# Altium schematic symbol library Type-C.SchLib: 16 symbols
Pins are listed as number, name and electrical type; pins without a type are passive.

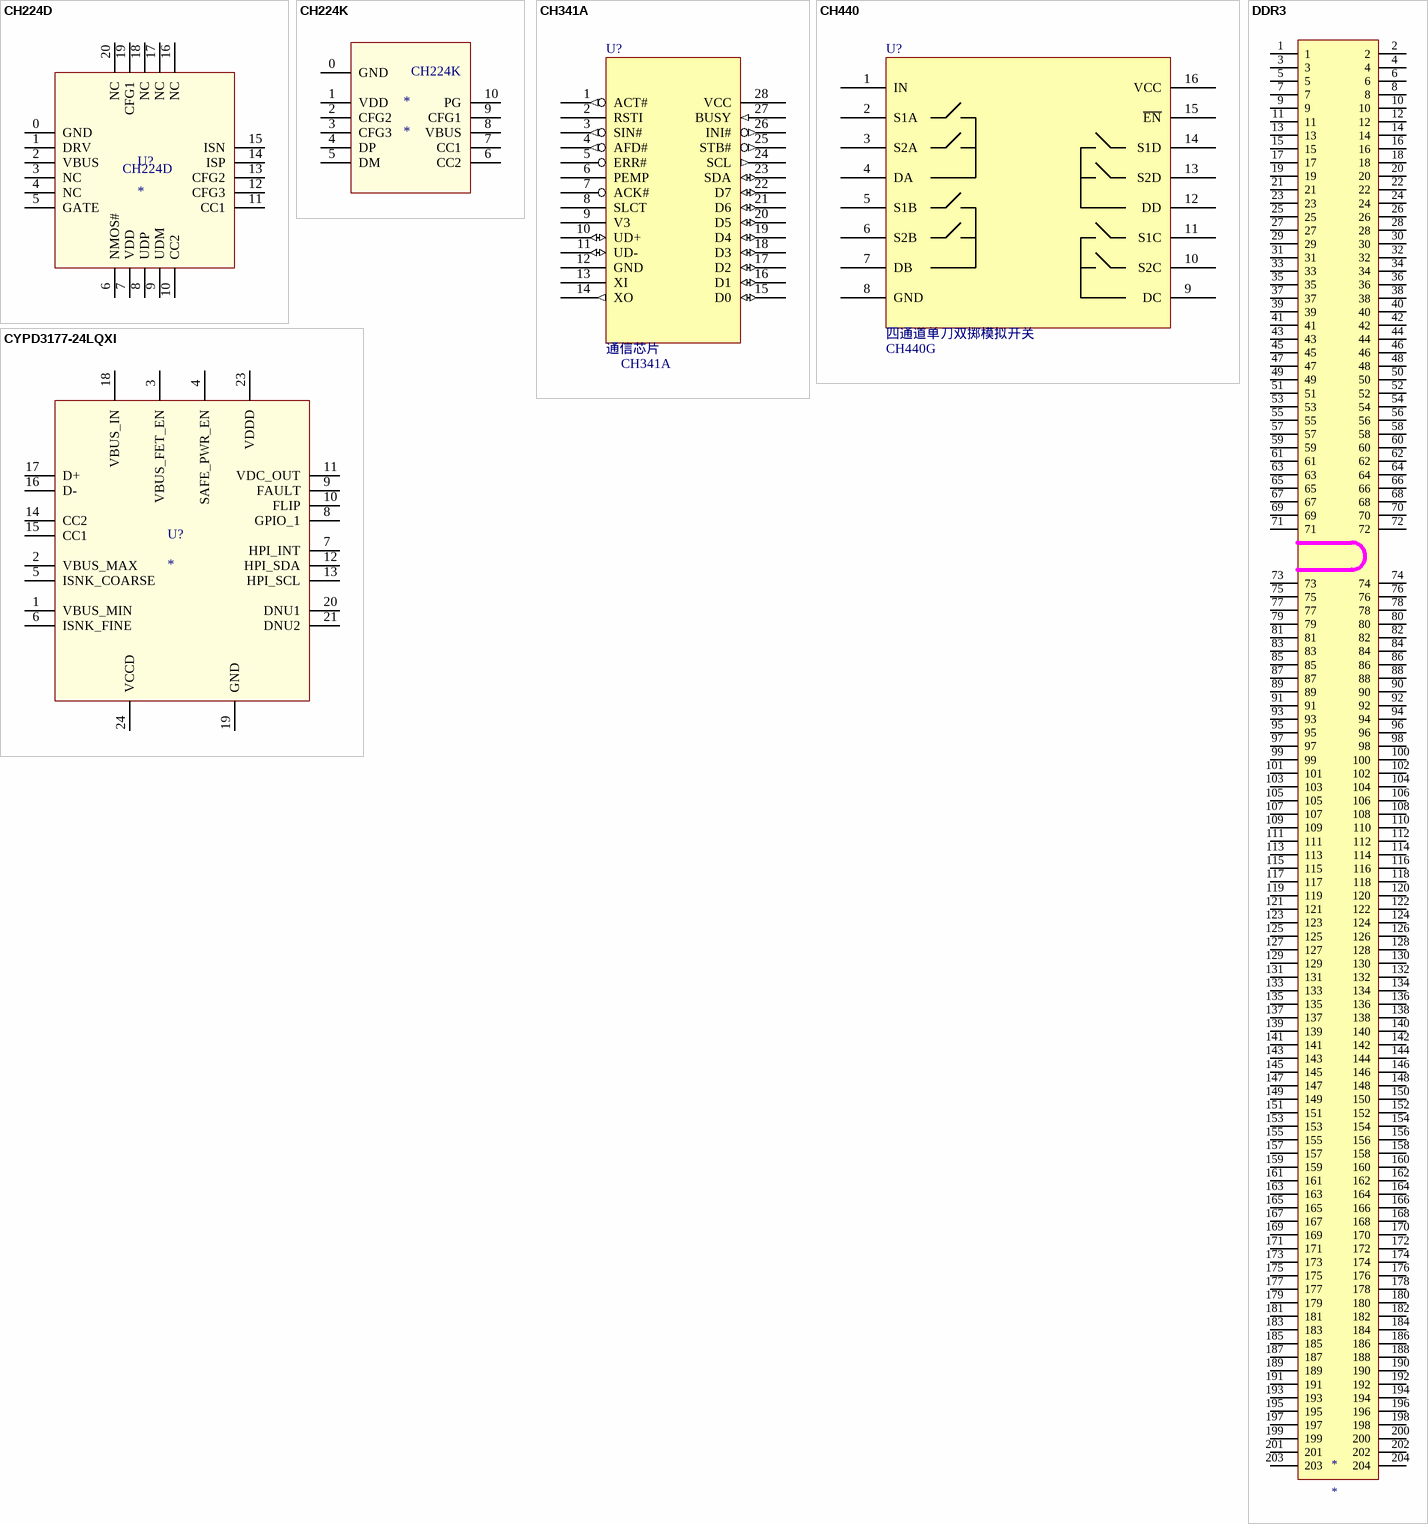
[diagram p0: symbols CH224D to DDR3]

## CH224D
designator U?
footprint QFN20-3x3
pins: 0 GND, 1 DRV, 2 VBUS, 3 NC, 4 NC, 5 GATE, 6 NMOS#, 7 VDD, 8 UDP, 9 UDM, 10 CC2, 11 CC1, 12 CFG3, 13 CFG2, 14 ISP, 15 ISN, 16 NC, 17 NC, 18 NC, 19 CFG1, 20 NC

## CH224K
designator *
pins: 0 GND, 1 VDD, 2 CFG2, 3 CFG3, 4 DP, 5 DM, 6 CC2, 7 CC1, 8 VBUS, 9 CFG1, 10 PG

## CH341A
designator U?, comment 通信芯片  value CH341A
USB to Print Port / Parallel
footprint SOP28 (body  18.4*7.62mm,引脚 18.4*10.16mm，脚间距1.27mm)
pins: 1 ACT# (out), 2 RSTI, 3 SIN# (out), 4 AFD# (out), 5 ERR#, 6 PEMP, 7 ACK#, 8 SLCT, 9 V3 (power), 10 UD+ (io), 11 UD- (io), 12 GND (power), 13 XI, 14 XO (out), 15 D0 (io), 16 D1 (io), 17 D2 (io), 18 D3 (io), 19 D4 (io), 20 D5 (io), 21 D6 (io), 22 D7 (io), 23 SDA (io), 24 SCL (out), 25 STB# (out), 26 INI# (out), 27 BUSY (in), 28 VCC (power)

## CH440
designator U?, comment 四通道单刀双掷模拟开关  value CH440G
四通道单刀双掷模拟开关 ，EN 低电平使能，IN 低电平 1#端导通，高电平2#端导通，DX是公共端
footprint SOP-16 (BODY长10mm，宽3.9mm，脚间距1.27mm，引脚宽度0.33mm，引脚最宽6.2mm)
pins: 1 IN, 2 S1A, 3 S2A, 4 DA, 5 S1B, 6 S2B, 7 DB, 8 GND, 9 DC, 10 S2C, 11 S1C, 12 DD, 13 S2D, 14 S1D, 15 ~{EN}, 16 VCC

## CYPD3177-24LQXI
designator U?
footprint QFN24
pins: 1 VBUS_MIN, 2 VBUS_MAX, 3 VBUS_FET_EN, 4 SAFE_PWR_EN, 5 ISNK_COARSE, 6 ISNK_FINE, 7 HPI_INT, 8 GPIO_1, 9 FAULT, 10 FLIP, 11 VDC_OUT, 12 HPI_SDA, 13 HPI_SCL, 14 CC2, 15 CC1, 16 D-, 17 D+, 18 VBUS_IN, 19 GND, 20 DNU1, 21 DNU2, 23 VDDD, 24 VCCD

## DDR3
designator *
footprint DDR3_PLUG_R
footprint DDR3_PLUG_L
pins: 1, 2, 3, 4, 5, 6, 7, 8, 9, 10, 11, 12, 13, 14, 15, 16, 17, 18, 19, 20, 21, 22, 23, 24, 25, 26, 27, 28, 29, 30, 31, 32, 33, 34, 35, 36, 37, 38, 39, 40, 41, 42, 43, 44, 45, 46, 47, 48, 49, 50, 51, 52, 53, 54, 55, 56, 57, 58, 59, 60, 61, 62, 63, 64, 65, 66, 67, 68, 69, 70, 71, 72, 73, 74, 75, 76, 77, 78, 79, 80, 81, 82, 83, 84, 85, 86, 87, 88, 89, 90, 91, 92, 93, 94, 95, 96, 97, 98, 99, 100, 101, 102, 103, 104, 105, 106, 107, 108, 109, 110, 111, 112, 113, 114, 115, 116, 117, 118, 119, 120, 121, 122, 123, 124, 125, 126, 127, 128, 129, 130, 131, 132, 133, 134, 135, 136, 137, 138, 139, 140, 141, 142, 143, 144, 145, 146, 147, 148, 149, 150, 151, 152, 153, 154, 155, 156, 157, 158, 159, 160, 161, 162, 163, 164, 165, 166, 167, 168, 169, 170, 171, 172, 173, 174, 175, 176, 177, 178, 179, 180, 181, 182, 183, 184, 185, 186, 187, 188, 189, 190, 191, 192, 193, 194, 195, 196, 197, 198, 199, 200, 201, 202, 203, 204

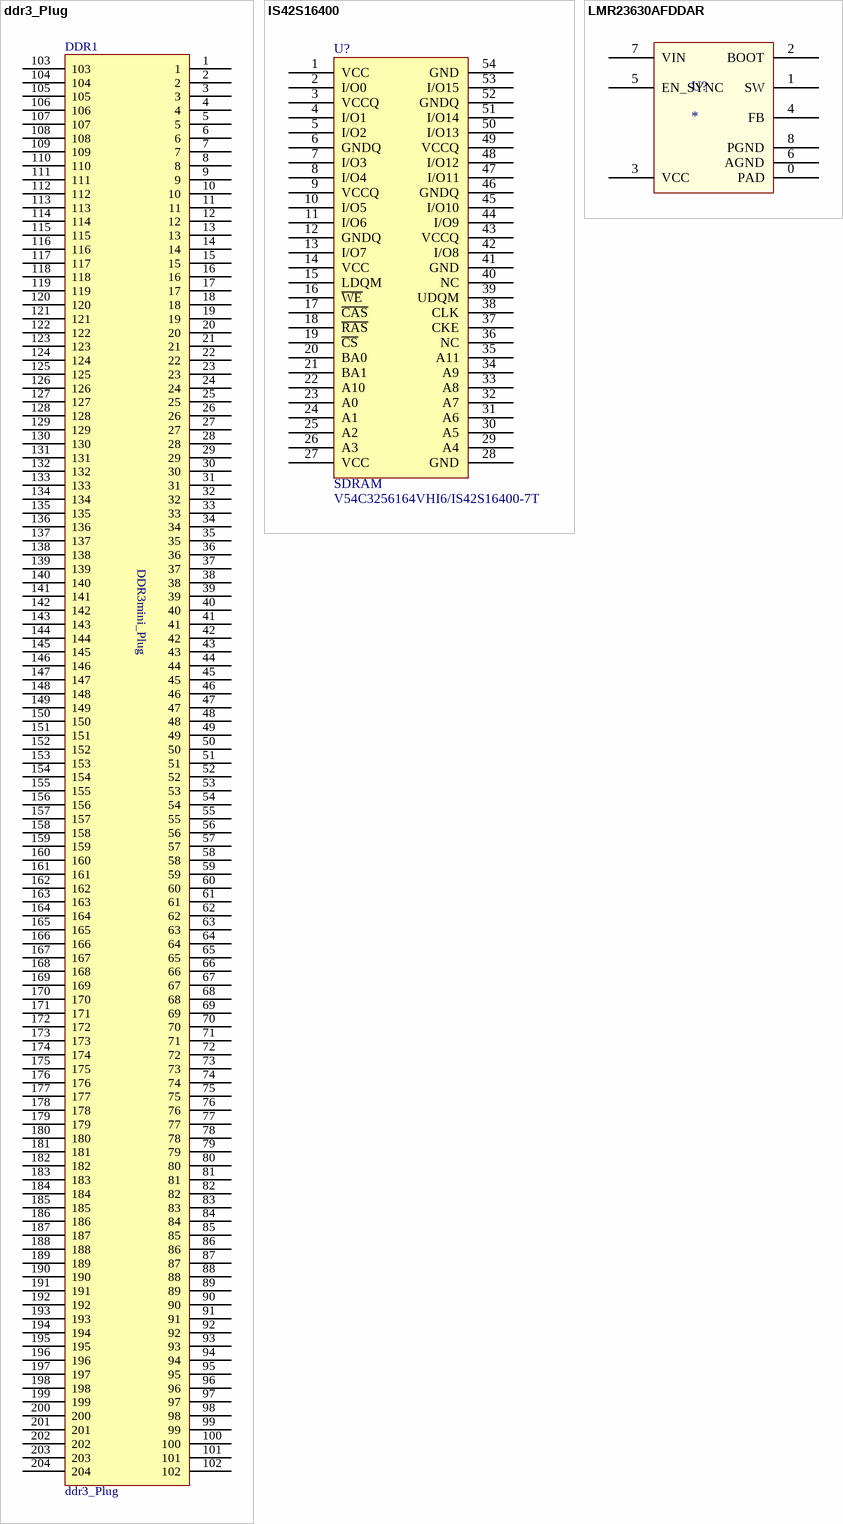
[diagram p1: symbols ddr3_Plug to LMR23630AFDDAR]

## ddr3_Plug
designator DDR1
footprint DDR3_PLUG_L
footprint DDR3_PLUG_R
pins: 1, 2, 3, 4, 5, 6, 7, 8, 9, 10, 11, 12, 13, 14, 15, 16, 17, 18, 19, 20, 21, 22, 23, 24, 25, 26, 27, 28, 29, 30, 31, 32, 33, 34, 35, 36, 37, 38, 39, 40, 41, 42, 43, 44, 45, 46, 47, 48, 49, 50, 51, 52, 53, 54, 55, 56, 57, 58, 59, 60, 61, 62, 63, 64, 65, 66, 67, 68, 69, 70, 71, 72, 73, 74, 75, 76, 77, 78, 79, 80, 81, 82, 83, 84, 85, 86, 87, 88, 89, 90, 91, 92, 93, 94, 95, 96, 97, 98, 99, 100, 101, 102, 103, 104, 105, 106, 107, 108, 109, 110, 111, 112, 113, 114, 115, 116, 117, 118, 119, 120, 121, 122, 123, 124, 125, 126, 127, 128, 129, 130, 131, 132, 133, 134, 135, 136, 137, 138, 139, 140, 141, 142, 143, 144, 145, 146, 147, 148, 149, 150, 151, 152, 153, 154, 155, 156, 157, 158, 159, 160, 161, 162, 163, 164, 165, 166, 167, 168, 169, 170, 171, 172, 173, 174, 175, 176, 177, 178, 179, 180, 181, 182, 183, 184, 185, 186, 187, 188, 189, 190, 191, 192, 193, 194, 195, 196, 197, 198, 199, 200, 201, 202, 203, 204
text: DDR3mini_Plug

## IS42S16400
designator U?, comment SDRAM  value V54C3256164VHI6/IS42S16400-7T
ISSI 公司SDRAM ， 166, 133, 100 MHz
footprint TSOP54 (body 长宽22.22mm*10.16mm，引脚长宽22.22mm*11.76mm，脚间距0.8mm)
pins: 1 VCC, 2 I/O0, 3 VCCQ, 4 I/O1, 5 I/O2, 6 GNDQ, 7 I/O3, 8 I/O4, 9 VCCQ, 10 I/O5, 11 I/O6, 12 GNDQ, 13 I/O7, 14 VCC, 15 LDQM, 16 ~{WE}, 17 ~{CAS}, 18 ~{RAS}, 19 ~{CS}, 20 BA0, 21 BA1, 22 A10, 23 A0, 24 A1, 25 A2, 26 A3, 27 VCC, 28 GND, 29 A4, 30 A5, 31 A6, 32 A7, 33 A8, 34 A9, 35 A11, 36 NC, 37 CKE, 38 CLK, 39 UDQM, 40 NC, 41 GND, 42 I/O8, 43 VCCQ, 44 I/O9, 45 I/O10, 46 GNDQ, 47 I/O11, 48 I/O12, 49 VCCQ, 50 I/O13, 51 I/O14, 52 GNDQ, 53 I/O15, 54 GND

## LMR23630AFDDAR
designator U?
4-36V_INPUT;3A_OUTPUT
pins: 0 PAD, 1 SW, 2 BOOT, 3 VCC, 4 FB, 5 EN_SYNC, 6 AGND, 7 VIN, 8 PGND

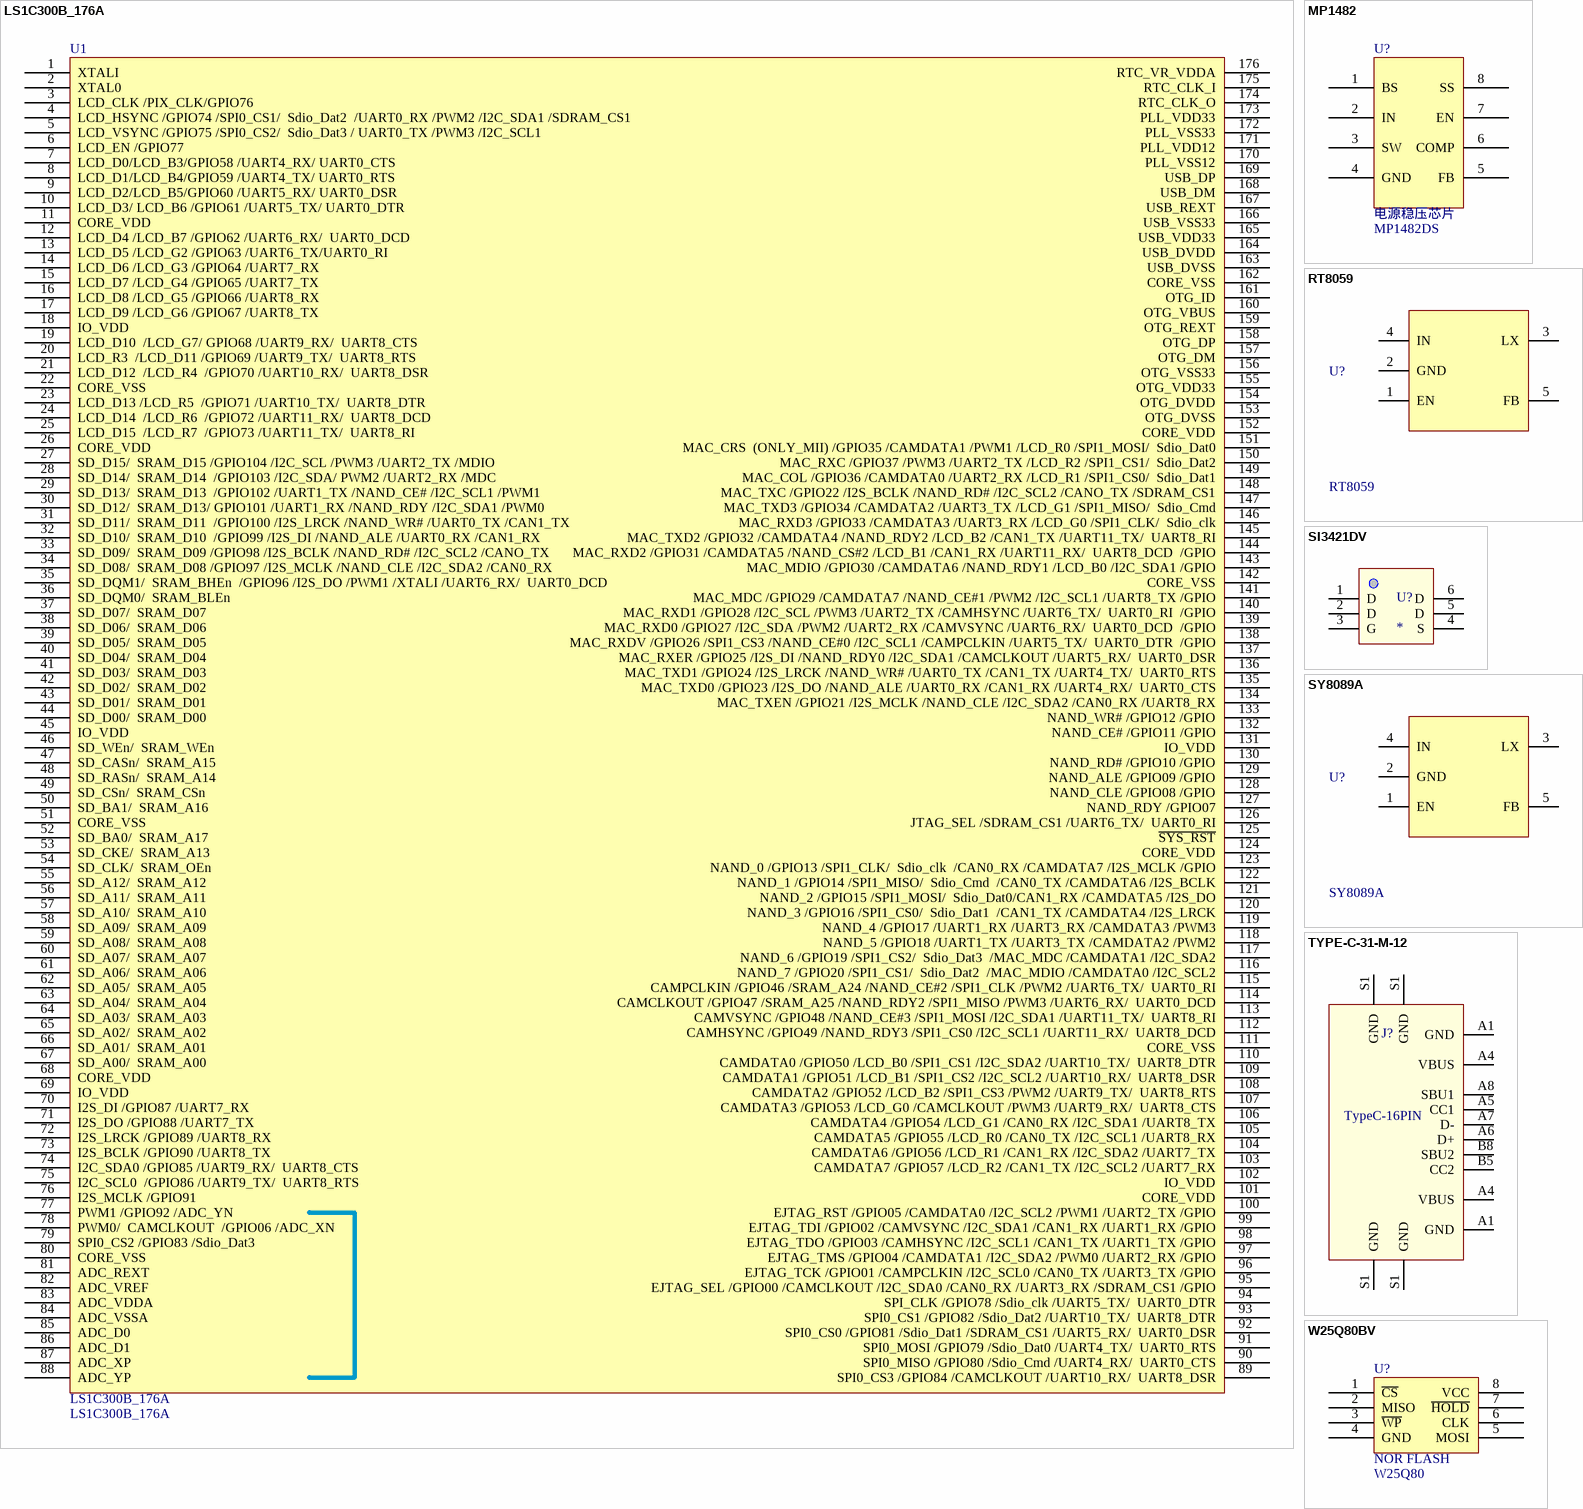
[diagram p2: symbols LS1C300B_176A to W25Q80BV]

## LS1C300B_176A
designator U1
龙芯1C300B QFP176A; Value: LS1C300B_176A
footprint QFP176 (body长宽20mm，引脚长宽22mm,脚间距0.4mm)
pins: 1 XTALI, 2 XTAL0, 3 LCD_CLK /PIX_CLK/GPIO76, 4 LCD_HSYNC /GPIO74 /SPI0_CS1/  Sdio_Dat2  /UART0_RX /PWM2 /I2C_SDA1 /SDRAM_CS1, 5 LCD_VSYNC /GPIO75 /SPI0_CS2/  Sdio_Dat3 / UART0_TX /PWM3 /I2C_SCL1, 6 LCD_EN /GPIO77, 7 LCD_D0/LCD_B3/GPIO58 /UART4_RX/ UART0_CTS, 8 LCD_D1/LCD_B4/GPIO59 /UART4_TX/ UART0_RTS, 9 LCD_D2/LCD_B5/GPIO60 /UART5_RX/ UART0_DSR, 10 LCD_D3/ LCD_B6 /GPIO61 /UART5_TX/ UART0_DTR, 11 CORE_VDD, 12 LCD_D4 /LCD_B7 /GPIO62 /UART6_RX/  UART0_DCD, 13 LCD_D5 /LCD_G2 /GPIO63 /UART6_TX/UART0_RI, 14 LCD_D6 /LCD_G3 /GPIO64 /UART7_RX, 15 LCD_D7 /LCD_G4 /GPIO65 /UART7_TX, 16 LCD_D8 /LCD_G5 /GPIO66 /UART8_RX, 17 LCD_D9 /LCD_G6 /GPIO67 /UART8_TX, 18 IO_VDD, 19 LCD_D10  /LCD_G7/ GPIO68 /UART9_RX/  UART8_CTS, 20 LCD_R3  /LCD_D11 /GPIO69 /UART9_TX/  UART8_RTS, 21 LCD_D12  /LCD_R4  /GPIO70 /UART10_RX/  UART8_DSR, 22 CORE_VSS, 23 LCD_D13 /LCD_R5  /GPIO71 /UART10_TX/  UART8_DTR, 24 LCD_D14  /LCD_R6  /GPIO72 /UART11_RX/  UART8_DCD, 25 LCD_D15  /LCD_R7  /GPIO73 /UART11_TX/  UART8_RI, 26 CORE_VDD, 27 SD_D15/  SRAM_D15 /GPIO104 /I2C_SCL /PWM3 /UART2_TX /MDIO, 28 SD_D14/  SRAM_D14  /GPIO103 /I2C_SDA/ PWM2 /UART2_RX /MDC, 29 SD_D13/  SRAM_D13  /GPIO102 /UART1_TX /NAND_CE# /I2C_SCL1 /PWM1, 30 SD_D12/  SRAM_D13/ GPIO101 /UART1_RX /NAND_RDY /I2C_SDA1 /PWM0, 31 SD_D11/  SRAM_D11  /GPIO100 /I2S_LRCK /NAND_WR# /UART0_TX /CAN1_TX, 32 SD_D10/  SRAM_D10  /GPIO99 /I2S_DI /NAND_ALE /UART0_RX /CAN1_RX, 33 SD_D09/  SRAM_D09 /GPIO98 /I2S_BCLK /NAND_RD# /I2C_SCL2 /CANO_TX, 34 SD_D08/  SRAM_D08 /GPIO97 /I2S_MCLK /NAND_CLE /I2C_SDA2 /CAN0_RX, 35 SD_DQM1/  SRAM_BHEn  /GPIO96 /I2S_DO /PWM1 /XTALI /UART6_RX/  UART0_DCD, 36 SD_DQM0/  SRAM_BLEn, 37 SD_D07/  SRAM_D07, 38 SD_D06/  SRAM_D06, 39 SD_D05/  SRAM_D05, 40 SD_D04/  SRAM_D04, 41 SD_D03/  SRAM_D03, 42 SD_D02/  SRAM_D02, 43 SD_D01/  SRAM_D01, 44 SD_D00/  SRAM_D00, 45 IO_VDD, 46 SD_WEn/  SRAM_WEn, 47 SD_CASn/  SRAM_A15, 48 SD_RASn/  SRAM_A14, 49 SD_CSn/  SRAM_CSn, 50 SD_BA1/  SRAM_A16, 51 CORE_VSS, 52 SD_BA0/  SRAM_A17, 53 SD_CKE/  SRAM_A13, 54 SD_CLK/  SRAM_OEn, 55 SD_A12/  SRAM_A12, 56 SD_A11/  SRAM_A11, 57 SD_A10/  SRAM_A10, 58 SD_A09/  SRAM_A09, 59 SD_A08/  SRAM_A08, 60 SD_A07/  SRAM_A07, 61 SD_A06/  SRAM_A06, 62 SD_A05/  SRAM_A05, 63 SD_A04/  SRAM_A04, 64 SD_A03/  SRAM_A03, 65 SD_A02/  SRAM_A02, 66 SD_A01/  SRAM_A01, 67 SD_A00/  SRAM_A00, 68 CORE_VDD, 69 IO_VDD, 70 I2S_DI /GPIO87 /UART7_RX, 71 I2S_DO /GPIO88 /UART7_TX, 72 I2S_LRCK /GPIO89 /UART8_RX, 73 I2S_BCLK /GPIO90 /UART8_TX, 74 I2C_SDA0 /GPIO85 /UART9_RX/  UART8_CTS, 75 I2C_SCL0  /GPIO86 /UART9_TX/  UART8_RTS, 76 I2S_MCLK /GPIO91, 77 PWM1 /GPIO92 /ADC_YN, 78 PWM0/  CAMCLKOUT  /GPIO06 /ADC_XN, 79 SPI0_CS2 /GPIO83 /Sdio_Dat3, 80 CORE_VSS, 81 ADC_REXT, 82 ADC_VREF, 83 ADC_VDDA, 84 ADC_VSSA, 85 ADC_D0, 86 ADC_D1, 87 ADC_XP, 88 ADC_YP, 89 SPI0_CS3 /GPIO84 /CAMCLKOUT /UART10_RX/  UART8_DSR, 90 SPI0_MISO /GPIO80 /Sdio_Cmd /UART4_RX/  UART0_CTS, 91 SPI0_MOSI /GPIO79 /Sdio_Dat0 /UART4_TX/  UART0_RTS, 92 SPI0_CS0 /GPIO81 /Sdio_Dat1 /SDRAM_CS1 /UART5_RX/  UART0_DSR, 93 SPI0_CS1 /GPIO82 /Sdio_Dat2 /UART10_TX/  UART8_DTR, 94 SPI_CLK /GPIO78 /Sdio_clk /UART5_TX/  UART0_DTR, 95 EJTAG_SEL /GPIO00 /CAMCLKOUT /I2C_SDA0 /CAN0_RX /UART3_RX /SDRAM_CS1 /GPIO, 96 EJTAG_TCK /GPIO01 /CAMPCLKIN /I2C_SCL0 /CAN0_TX /UART3_TX /GPIO, 97 EJTAG_TMS /GPIO04 /CAMDATA1 /I2C_SDA2 /PWM0 /UART2_RX /GPIO, 98 EJTAG_TDO /GPIO03 /CAMHSYNC /I2C_SCL1 /CAN1_TX /UART1_TX /GPIO, 99 EJTAG_TDI /GPIO02 /CAMVSYNC /I2C_SDA1 /CAN1_RX /UART1_RX /GPIO, 100 EJTAG_RST /GPIO05 /CAMDATA0 /I2C_SCL2 /PWM1 /UART2_TX /GPIO, 101 CORE_VDD, 102 IO_VDD, 103 CAMDATA7 /GPIO57 /LCD_R2 /CAN1_TX /I2C_SCL2 /UART7_RX, 104 CAMDATA6 /GPIO56 /LCD_R1 /CAN1_RX /I2C_SDA2 /UART7_TX, 105 CAMDATA5 /GPIO55 /LCD_R0 /CAN0_TX /I2C_SCL1 /UART8_RX, 106 CAMDATA4 /GPIO54 /LCD_G1 /CAN0_RX /I2C_SDA1 /UART8_TX, 107 CAMDATA3 /GPIO53 /LCD_G0 /CAMCLKOUT /PWM3 /UART9_RX/  UART8_CTS, 108 CAMDATA2 /GPIO52 /LCD_B2 /SPI1_CS3 /PWM2 /UART9_TX/  UART8_RTS, 109 CAMDATA1 /GPIO51 /LCD_B1 /SPI1_CS2 /I2C_SCL2 /UART10_RX/  UART8_DSR, 110 CAMDATA0 /GPIO50 /LCD_B0 /SPI1_CS1 /I2C_SDA2 /UART10_TX/  UART8_DTR, 111 CORE_VSS, 112 CAMHSYNC /GPIO49 /NAND_RDY3 /SPI1_CS0 /I2C_SCL1 /UART11_RX/  UART8_DCD, 113 CAMVSYNC /GPIO48 /NAND_CE#3 /SPI1_MOSI /I2C_SDA1 /UART11_TX/  UART8_RI, 114 CAMCLKOUT /GPIO47 /SRAM_A25 /NAND_RDY2 /SPI1_MISO /PWM3 /UART6_RX/  UART0_DCD, 115 CAMPCLKIN /GPIO46 /SRAM_A24 /NAND_CE#2 /SPI1_CLK /PWM2 /UART6_TX/  UART0_RI, 116 NAND_7 /GPIO20 /SPI1_CS1/  Sdio_Dat2  /MAC_MDIO /CAMDATA0 /I2C_SCL2, 117 NAND_6 /GPIO19 /SPI1_CS2/  Sdio_Dat3  /MAC_MDC /CAMDATA1 /I2C_SDA2, 118 NAND_5 /GPIO18 /UART1_TX /UART3_TX /CAMDATA2 /PWM2, 119 NAND_4 /GPIO17 /UART1_RX /UART3_RX /CAMDATA3 /PWM3, 120 NAND_3 /GPIO16 /SPI1_CS0/  Sdio_Dat1  /CAN1_TX /CAMDATA4 /I2S_LRCK, 121 NAND_2 /GPIO15 /SPI1_MOSI/  Sdio_Dat0/CAN1_RX /CAMDATA5 /I2S_DO, 122 NAND_1 /GPIO14 /SPI1_MISO/  Sdio_Cmd  /CAN0_TX /CAMDATA6 /I2S_BCLK, 123 NAND_0 /GPIO13 /SPI1_CLK/  Sdio_clk  /CAN0_RX /CAMDATA7 /I2S_MCLK /GPIO, 124 CORE_VDD, 125 ~{SYS_RST}, 126 JTAG_SEL /SDRAM_CS1 /UART6_TX/  UART0_RI, 127 NAND_RDY /GPIO07, 128 NAND_CLE /GPIO08 /GPIO, 129 NAND_ALE /GPIO09 /GPIO, 130 NAND_RD# /GPIO10 /GPIO, 131 IO_VDD, 132 NAND_CE# /GPIO11 /GPIO, 133 NAND_WR# /GPIO12 /GPIO, 134 MAC_TXEN /GPIO21 /I2S_MCLK /NAND_CLE /I2C_SDA2 /CAN0_RX /UART8_RX, 135 MAC_TXD0 /GPIO23 /I2S_DO /NAND_ALE /UART0_RX /CAN1_RX /UART4_RX/  UART0_CTS, 136 MAC_TXD1 /GPIO24 /I2S_LRCK /NAND_WR# /UART0_TX /CAN1_TX /UART4_TX/  UART0_RTS, 137 MAC_RXER /GPIO25 /I2S_DI /NAND_RDY0 /I2C_SDA1 /CAMCLKOUT /UART5_RX/  UART0_DSR, 138 MAC_RXDV /GPIO26 /SPI1_CS3 /NAND_CE#0 /I2C_SCL1 /CAMPCLKIN /UART5_TX/  UART0_DTR  /GPIO, 139 MAC_RXD0 /GPIO27 /I2C_SDA /PWM2 /UART2_RX /CAMVSYNC /UART6_RX/  UART0_DCD  /GPIO, 140 MAC_RXD1 /GPIO28 /I2C_SCL /PWM3 /UART2_TX /CAMHSYNC /UART6_TX/  UART0_RI  /GPIO, 141 MAC_MDC /GPIO29 /CAMDATA7 /NAND_CE#1 /PWM2 /I2C_SCL1 /UART8_TX /GPIO, 142 CORE_VSS, 143 MAC_MDIO /GPIO30 /CAMDATA6 /NAND_RDY1 /LCD_B0 /I2C_SDA1 /GPIO, 144 MAC_RXD2 /GPIO31 /CAMDATA5 /NAND_CS#2 /LCD_B1 /CAN1_RX /UART11_RX/  UART8_DCD  /GPIO, 145 MAC_TXD2 /GPIO32 /CAMDATA4 /NAND_RDY2 /LCD_B2 /CAN1_TX /UART11_TX/  UART8_RI, 146 MAC_RXD3 /GPIO33 /CAMDATA3 /UART3_RX /LCD_G0 /SPI1_CLK/  Sdio_clk, 147 MAC_TXD3 /GPIO34 /CAMDATA2 /UART3_TX /LCD_G1 /SPI1_MISO/  Sdio_Cmd, 148 MAC_TXC /GPIO22 /I2S_BCLK /NAND_RD# /I2C_SCL2 /CANO_TX /SDRAM_CS1, 149 MAC_COL /GPIO36 /CAMDATA0 /UART2_RX /LCD_R1 /SPI1_CS0/  Sdio_Dat1, 150 MAC_RXC /GPIO37 /PWM3 /UART2_TX /LCD_R2 /SPI1_CS1/  Sdio_Dat2, 151 MAC_CRS  (ONLY_MII) /GPIO35 /CAMDATA1 /PWM1 /LCD_R0 /SPI1_MOSI/  Sdio_Dat0, 152 CORE_VDD, 153 OTG_DVSS, 154 OTG_DVDD, 155 OTG_VDD33, 156 OTG_VSS33, 157 OTG_DM, 158 OTG_DP, 159 OTG_REXT, 160 OTG_VBUS, 161 OTG_ID, 162 CORE_VSS, 163 USB_DVSS, 164 USB_DVDD, 165 USB_VDD33, 166 USB_VSS33, 167 USB_REXT, 168 USB_DM, 169 USB_DP, 170 PLL_VSS12, 171 PLL_VDD12, 172 PLL_VSS33, 173 PLL_VDD33, 174 RTC_CLK_O, 175 RTC_CLK_I, 176 RTC_VR_VDDA

## MP1482
designator U?, comment 电源稳压芯片  value MP1482DS
电源稳压芯片MPS,2A，18V的同步整流降压转换器
footprint SOIC-8 (长4.9mm,宽5.4mm,高2mm)
pins: 1 BS, 2 IN, 3 SW, 4 GND, 5 FB, 6 COMP, 7 EN, 8 SS

## RT8059
designator U?
LDO
footprint SOT23-5N (3x1.6x1.1mm(长宽高))
pins: 1 EN, 2 GND, 3 LX, 4 IN, 5 FB

## SI3421DV
designator U?
footprint TSOP-6
pins: 1 D, 2 D, 3 G, 4 S, 5 D, 6 D

## SY8089A
designator U?
LDO
footprint SOT23-5N (3x1.6x1.1mm(长宽高))
pins: 1 EN, 2 GND, 3 LX, 4 IN, 5 FB

## TYPE-C-31-M-12
designator J?
footprint TYPE-C-31-M-12 (Type-C母座)
footprint Type-C-沉板1.6
pins: A1 GND, A1 GND, A4 VBUS, A4 VBUS, A5 CC1, A6 D+, A7 D-, A8 SBU1, B5 CC2, B8 SBU2, S1 GND, S1 GND, S1 GND, S1 GND
text: TypeC-16PIN

## W25Q80BV
designator U?, comment NOR FLASH  value W25Q80
nor flash W25Q64....华邦
footprint SOIC-8-N (长5mm，宽6.2mm，高1.75mm，脚间距1.27mm)
pins: 1 ~{CS}, 2 MISO, 3 ~{WP}, 4 GND, 5 MOSI, 6 CLK, 7 ~{HOLD}, 8 VCC